# Altium footprint library Alcetronics_EM.PcbLib: 63 footprints (part 4 of 4)
Each footprint in its own frame and in the unit in brackets; x right, y up, seen from the top. Pads: shape width x height; smd on the part's side, far side on the other; paste and mask are expansions set on the pad; w line width, h text height; cw(c..) or ccw(c..) is an arc to the next point about the centre after c.
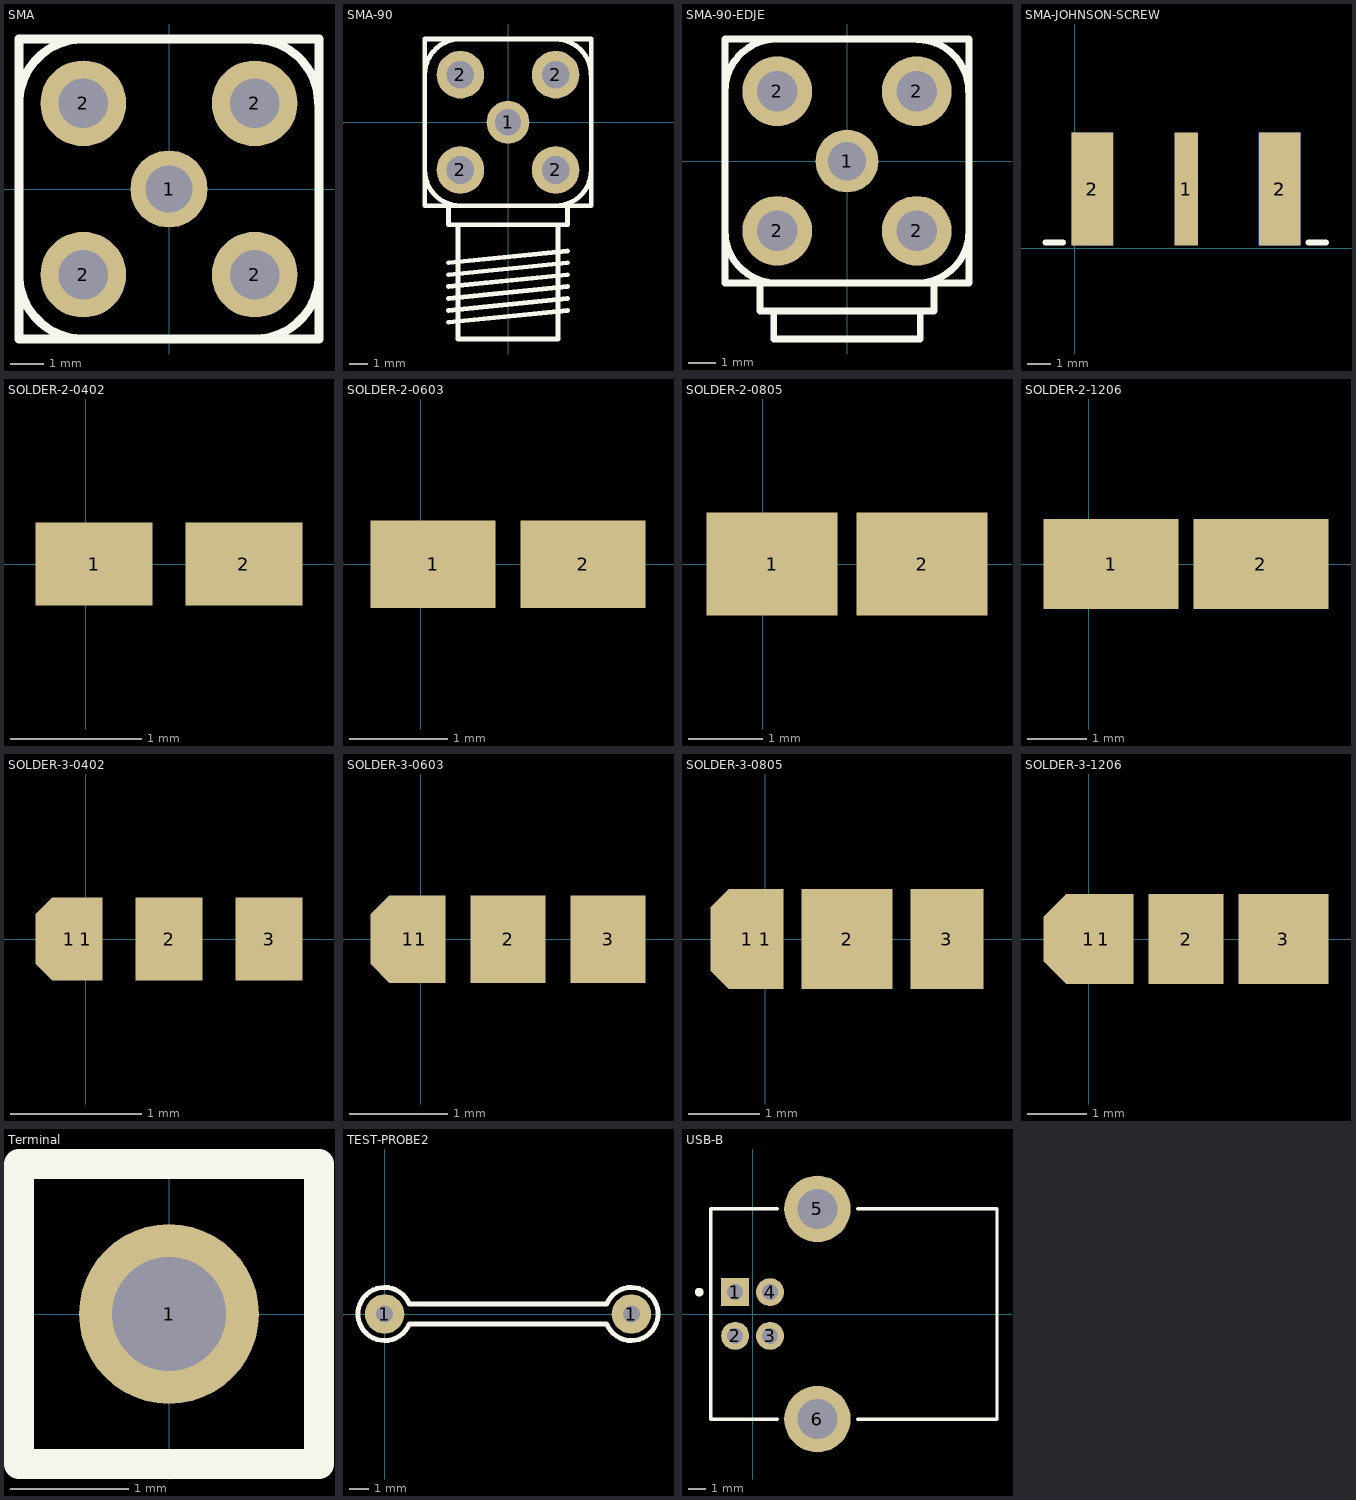
[diagram p3: the footprints below, top view; thin cyan lines are the x and y axes]

## SMA [mil]
pads (5):
  round 90 hole 55: 1(0,0)
  round 100 hole 58: 2(-100,-100) 2(-100,100) 2(100,-100) 2(100,100)
Top Overlay:
  lines w10: -175,-100 ccw(c-100,-100) -100,-175 ; -175,100 cw(c-100,100) -100,175 ; 100,-175 ccw(c100,-100) 175,-100 ; 100,174.33 cw(c100,100) 174.33,100 ; -175,-175 -175,175 175,175 175,-175 -175,-175

## SMA-90 [mil]
pads (5):
  round 90 hole 55: 1(0,0)
  round 100 hole 58: 2(-100,-100) 2(-100,100) 2(100,-100) 2(100,100)
Top Overlay:
  lines w10: -175,-100 ccw(c-100,-100) -100,-175 ; -175,100 cw(c-100,100) -100,175 ; -125,-420 125,-395 ; -125,-395 125,-370 ; -125,-370 125,-345 ; -125,-345 125,-320 ; -125,-320 125,-295 ; -125,-295 125,-270 ; -125,-175 -125,-215 125,-215 125,-175 ; -105,-215 -105,-455 105,-455 105,-215 ; 100,-175 ccw(c100,-100) 175,-100 ; 100,174.33 cw(c100,100) 174.33,100 ; -175,-175 175,-175 175,175 -175,175 -175,-175

## SMA-90-EDJE [mil]
pads (5):
  round 90 hole 55: 1(0,0)
  round 100 hole 58: 2(-100,-100) 2(-100,100) 2(100,-100) 2(100,100)
Top Overlay:
  lines w10: -175,-100 ccw(c-100,-100) -100,-175 ; -175,100 cw(c-100,100) -100,175 ; -125,-175 -125,-215 125,-215 125,-175 ; -105,-215 -105,-255 105,-255 105,-215 ; 100,-175 ccw(c100,-100) 175,-100 ; 100,174.33 cw(c100,100) 174.33,100 ; -175,-175 175,-175 175,175 -175,175 -175,-175

## SMA-JOHNSON-SCREW [mil]
pads (5):
  rect 40x190 smd: 1(188,100)
  rect 70x190 smd: 2(30,100) 2(345,100)
  rect 70x190 smd far side: 2(30,100) 2(345,100)
Top Overlay:
  lines w9.84: -49.21,9.84 -19.69,9.84 ; 393.7,9.84 423.23,9.84

## SOLDER-2-0402 [mil] "2 Pin Solder Jumper 0402 size"
pads (2):
  rect 35x25 smd: 1(2.5,0) 2(47.5,0)
Top Solder:
  rectangle: -20,-17.5 70,17.5

## SOLDER-2-0603 [mil] "2 Pin Solder Jumper 0603 size"
pads (2):
  rect 50x35 smd: 1(5,0) 2(65,0)
Top Solder:
  rectangle: -25,-22.5 95,22.5

## SOLDER-2-0805 [mil] "2 Pin Solder Jumper 0805 size"
pads (2):
  rect 70x55 smd: 1(5,0) 2(85,0)
Top Solder:
  rectangle: -35,-32.5 125,32.5

## SOLDER-2-1206 [mil] "2 Pin Solder Jumper 1206 size"
pads (2):
  rect 90x60 smd: 1(15,0) 2(115,0)
Top Solder:
  rectangle: -35,-35 165,35

## SOLDER-3-0402 [mil] "3 Pins Solder Jumper 0402 size"
pads (4):
  oct 20x25 smd: 1(-5,0)
  rect 10x25 smd: 1(0,0)
  rect 20x25 smd: 2(25,0) 3(55,0)
Top Solder:
  rectangle: -20,-17.5 70,17.5

## SOLDER-3-0603 [mil] "3 Pins Solder Jumper 0603 size"
pads (4):
  oct 30x35 smd: 1(-5,0)
  rect 20x35 smd: 1(0,0)
  rect 30x35 smd: 2(35,0) 3(75,0)
Top Solder:
  rectangle: -25,-22.5 95,22.5

## SOLDER-3-0805 [mil] "3 Pins Solder Jumper 0805 size"
pads (4):
  oct 40x55 smd: 1(-10,0)
  rect 20x55 smd: 1(0,0)
  rect 50x55 smd: 2(45,0)
  rect 40x55 smd: 3(100,0)
Top Solder:
  rectangle: -35,-32.5 125,32.5

## SOLDER-3-1206 [mil] "3 Pins Solder Jumper 1206 size"
pads (4):
  oct 60x60 smd: 1(0,0)
  rect 40x60 smd: 1(10,0)
  rect 50x60 smd: 2(65,0)
  rect 60x60 smd: 3(130,0)
Top Solder:
  rectangle: -35,-35 165,35

## Terminal [mil]
pads (1):
  round 60 hole 37.99: 1(0,0)
Top Overlay:
  lines w10: -50,-50 -50,50 50,50 50,-50 -50,-50

## TEST-PROBE2 [mil]
pads (2):
  round 80 hole 35: 1(0,0) 1(500,0)
Top Overlay:
  lines w10: 50,-20 cw(c0,0) 50,20 450,20 cw(c500,0) 450,-20 50,-20

## USB-B [mm] "Connector; USB1.1, Type B, Thru-Hole; 4 Position; Right Angle"
height 11.05
pads (6):
  rect 1.6x1.6 hole 0.92: 1(-1,1.25)
  round 1.6 hole 0.92: 2(-1,-1.25) 3(1,-1.25) 4(1,1.25)
  round 3.8 hole 2.3: 5(3.71,6.02) 6(3.71,-6.02)
Top Overlay:
  circle w0.25: c-3.06,1.25 r0.125
  lines w0.2: 1.41,-6.02 -2.41,-6.02 -2.41,6.02 1.41,6.02 ; 6.01,-6.02 13.99,-6.02 13.99,6.02 6.01,6.02